# EAGLE library part LMZ21700SILR (library LMZ21700)
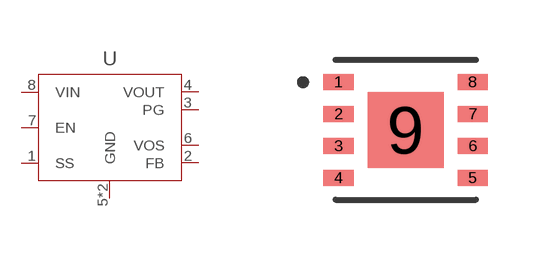
[diagram p0: symbol with the pads of SIL0008B; footprint SIL0008B]

Designator prefix U

## LMZ21700SILR (DATASHEETURL: httpwww.ti.comproductlmz21700; FREQUENCY: 2500000.0; IMAX: 0.65; MANUFACTURER_NAME: Texas Instruments; MANUFACTURER_PART_NUMBER: LMZ21700SILR; MKTG_PACKAGE: SYB08A; NSID: LMZ21700SYBNOPB; PACKAGE: SYB08A; VENDOR: Texas Instruments)  [SIL0008B]
1  SS  pas
2  FB  pas
3  PG  pas
4  VOUT  pas
5  GND  pas
6  VOS  pas
7  EN  pas
8  VIN  pas
9  GND  pas

## Footprint SIL0008B (pad centres in mm)
smd 0.755 x 0.4: 1 -1.677,1.2; 2 -1.677,0.4; 3 -1.677,-0.4; 4 -1.677,-1.2; 5 1.677,-1.2; 6 1.677,-0.4; 7 1.677,0.4; 8 1.677,1.2
smd 1.9 x 1.9: 9 0,0